# Altium integrated library Microchip Power Management CPU-System Supervisor.IntLib: 428 symbols (part 12 of 12)
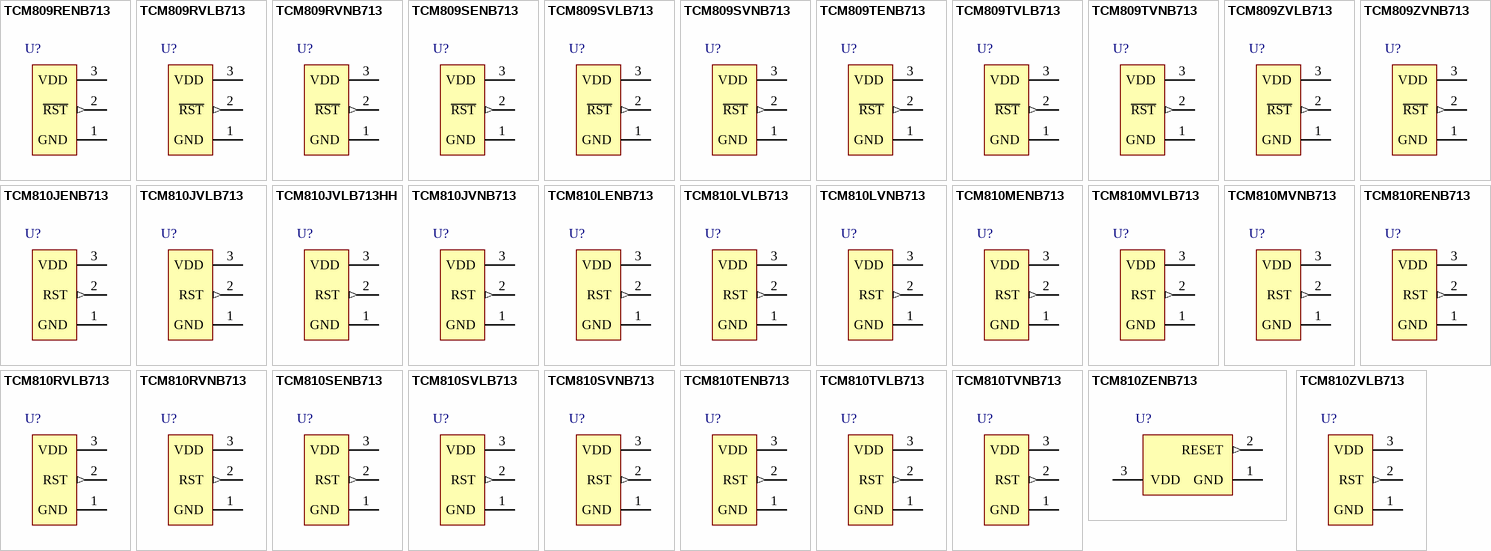
[diagram p21: symbols TCM809RENB713 to TCM810ZVLB713]

## TCM810MVLB713
designator U?
3-Pin Microcontroller Reset Monitors, 3-Pin SC-70; Manufacturer: Microchip; PartNumber: TCM810MVLB713; DatasheetVersion: revD, Mar-2005; PackageVersion: revBB, Aug-2009; PackageReference: SC70-LB3; PackageDescription: 3-Lead Plastic Small Outline Transistor (LB) [SC70]; Supplier 1: Digi-Key; Supplier Part Number 1: TCM810MVLB713TR-ND; Supplier 2: Digi-Key; Supplier Part Number 2: TCM810MVLB713CT-ND; Supplier 3: Digi-Key; Supplier Part Number 3: TCM810MVLB713DKR-ND; Supplier 4: Farnell; Supplier Part Number 4: 1840924; Supplier 5: Newark; Supplier Part Number 5: 31T1363; Supplier 6: Newark; Supplier Part Number 6: 92C5473; Supplier 7: Mouser; Supplier Part Number 7: 579-TCM810MVLB713; Mounting Technology: Surface Mount; ComponentLink1Description: Manufacturer URL; ComponentLink1URL: http://www.microchip.com/; ComponentLink2Description: Datasheet; ComponentLink2URL: http://ww1.microchip.com/downloads/en/DeviceDoc/21661d.pdf; ComponentLink3Description: Package Specification; ComponentLink3URL: http://www.microchip.com/stellent/groups/techpub_sg/documents/packagingspec/en012702.pdf
footprint SC70-LB3_N (SOT323, 3-Leads, Body 2.0x1.3mm, Pitch 0.65mm, Lead Span 2.1mm, IPC Medium Density)
footprint SC70-LB3_L (SOT323, 3-Leads, Body 2.0x1.3mm, Pitch 0.65mm, Lead Span 2.1mm, IPC High Density)
footprint SC70-LB3_M (SOT323, 3-Leads, Body 2.0x1.3mm, Pitch 0.65mm, Lead Span 2.1mm, IPC Low Density)
pins: 1 GND (power), 2 RST (out), 3 VDD (power)

## TCM810MVNB713
designator U?
3-Pin Microcontroller Reset Monitors, 3-Pin SOT-23; Manufacturer: Microchip; PartNumber: TCM810MVNB713; DatasheetVersion: revD, Mar-2005; PackageVersion: revBB, Aug-2009; PackageReference: SOT-23-NB3; PackageDescription: 3-Lead Plastic Small Outline Transistor (NB) [SOT-23]; Supplier 1: Digi-Key; Supplier Part Number 1: TCM810MVNB713TR-ND; Supplier 2: Digi-Key; Supplier Part Number 2: TCM810MVNB713CT-ND; Supplier 3: Digi-Key; Supplier Part Number 3: TCM810MVNB713DKR-ND; Supplier 4: Farnell; Supplier Part Number 4: 1840926; Supplier 5: Farnell; Supplier Part Number 5: 1840926RL; Supplier 6: Newark; Supplier Part Number 6: 31T1364; Supplier 7: Newark; Supplier Part Number 7: 92C5474; Supplier 8: Mouser; Supplier Part Number 8: 579-TCM810MVNB713; Mounting Technology: Surface Mount; Code_IPC: SOT23-3; ComponentLink1Description: Manufacturer URL; ComponentLink1URL: http://www.microchip.com/; ComponentLink2Description: Datasheet; ComponentLink2URL: http://ww1.microchip.com/downloads/en/DeviceDoc/21661d.pdf; ComponentLink3Description: Package Specification; ComponentLink3URL: http://www.microchip.com/stellent/groups/techpub_sg/documents/packagingspec/en012702.pdf
footprint SOT-23-NB3_N (SOT23, 3-Leads, Body 2.9x1.3mm, Pitch 0.95mm, Lead Span 2.4mm, IPC Medium Density)
footprint SOT-23-NB3_L (SOT23, 3-Leads, Body 2.9x1.3mm, Pitch 0.95mm, Lead Span 2.4mm, IPC High Density)
footprint SOT-23-NB3_M (SOT23, 3-Leads, Body 2.9x1.3mm, Pitch 0.95mm, Lead Span 2.4mm, IPC Low Density)
pins: 1 GND (power), 2 RST (out), 3 VDD (power)

## TCM810RENB713
designator U?
3-Pin Microcontroller Reset Monitors, 3-Pin SOT-23, Extended Temperature; Manufacturer: Microchip; PartNumber: TCM810RENB713; DatasheetVersion: revD, Mar-2005; PackageVersion: revBB, Aug-2009; PackageReference: SOT-23-NB3; PackageDescription: 3-Lead Plastic Small Outline Transistor (NB) [SOT-23]; Supplier 1: Digi-Key; Supplier Part Number 1: TCM810RENB713TR-ND; Supplier 2: Digi-Key; Supplier Part Number 2: TCM810RENB713CT-ND; Supplier 3: Digi-Key; Supplier Part Number 3: TCM810RENB713DKR-ND; Supplier 4: Mouser; Supplier Part Number 4: 579-TCM810RENB713; Mounting Technology: Surface Mount; Code_IPC: SOT23-3; ComponentLink1Description: Manufacturer URL; ComponentLink1URL: http://www.microchip.com/; ComponentLink2Description: Datasheet; ComponentLink2URL: http://ww1.microchip.com/downloads/en/DeviceDoc/21661d.pdf; ComponentLink3Description: Package Specification; ComponentLink3URL: http://www.microchip.com/stellent/groups/techpub_sg/documents/packagingspec/en012702.pdf
footprint SOT-23-NB3_N (SOT23, 3-Leads, Body 2.9x1.3mm, Pitch 0.95mm, Lead Span 2.4mm, IPC Medium Density)
footprint SOT-23-NB3_L (SOT23, 3-Leads, Body 2.9x1.3mm, Pitch 0.95mm, Lead Span 2.4mm, IPC High Density)
footprint SOT-23-NB3_M (SOT23, 3-Leads, Body 2.9x1.3mm, Pitch 0.95mm, Lead Span 2.4mm, IPC Low Density)
pins: 1 GND (power), 2 RST (out), 3 VDD (power)

## TCM810RVLB713
designator U?
3-Pin Microcontroller Reset Monitors, 3-Pin SC-70; Manufacturer: Microchip; PartNumber: TCM810RVLB713; DatasheetVersion: revD, Mar-2005; PackageVersion: revBB, Aug-2009; PackageReference: SC70-LB3; PackageDescription: 3-Lead Plastic Small Outline Transistor (LB) [SC70]; Supplier 1: Digi-Key; Supplier Part Number 1: TCM810RVLB713TR-ND; Supplier 2: Digi-Key; Supplier Part Number 2: TCM810RVLB713CT-ND; Supplier 3: Digi-Key; Supplier Part Number 3: TCM810RVLB713DKR-ND; Supplier 4: Farnell; Supplier Part Number 4: 1840909; Supplier 5: Newark; Supplier Part Number 5: 31T1365; Supplier 6: Newark; Supplier Part Number 6: 72C4333; Supplier 7: Mouser; Supplier Part Number 7: 579-TCM810RVLB713; Mounting Technology: Surface Mount; ComponentLink1Description: Manufacturer URL; ComponentLink1URL: http://www.microchip.com/; ComponentLink2Description: Datasheet; ComponentLink2URL: http://ww1.microchip.com/downloads/en/DeviceDoc/21661d.pdf; ComponentLink3Description: Package Specification; ComponentLink3URL: http://www.microchip.com/stellent/groups/techpub_sg/documents/packagingspec/en012702.pdf
footprint SC70-LB3_N (SOT323, 3-Leads, Body 2.0x1.3mm, Pitch 0.65mm, Lead Span 2.1mm, IPC Medium Density)
footprint SC70-LB3_L (SOT323, 3-Leads, Body 2.0x1.3mm, Pitch 0.65mm, Lead Span 2.1mm, IPC High Density)
footprint SC70-LB3_M (SOT323, 3-Leads, Body 2.0x1.3mm, Pitch 0.65mm, Lead Span 2.1mm, IPC Low Density)
pins: 1 GND (power), 2 RST (out), 3 VDD (power)

## TCM810RVNB713
designator U?
3-Pin Microcontroller Reset Monitors, 3-Pin SOT-23; Manufacturer: Microchip; PartNumber: TCM810RVNB713; DatasheetVersion: revD, Mar-2005; PackageVersion: revBB, Aug-2009; PackageReference: SOT-23-NB3; PackageDescription: 3-Lead Plastic Small Outline Transistor (NB) [SOT-23]; Supplier 1: Digi-Key; Supplier Part Number 1: TCM810RVNB713TR-ND; Supplier 2: Digi-Key; Supplier Part Number 2: TCM810RVNB713CT-ND; Supplier 3: Digi-Key; Supplier Part Number 3: TCM810RVNB713DKR-ND; Supplier 4: Farnell; Supplier Part Number 4: 1840910RL; Supplier 5: Farnell; Supplier Part Number 5: 1840910; Supplier 6: Newark; Supplier Part Number 6: 31T1366; Supplier 7: Newark; Supplier Part Number 7: 92C5475; Supplier 8: Mouser; Supplier Part Number 8: 579-TCM810RVNB713; Mounting Technology: Surface Mount; Code_IPC: SOT23-3; ComponentLink1Description: Manufacturer URL; ComponentLink1URL: http://www.microchip.com/; ComponentLink2Description: Datasheet; ComponentLink2URL: http://ww1.microchip.com/downloads/en/DeviceDoc/21661d.pdf; ComponentLink3Description: Package Specification; ComponentLink3URL: http://www.microchip.com/stellent/groups/techpub_sg/documents/packagingspec/en012702.pdf
footprint SOT-23-NB3_N (SOT23, 3-Leads, Body 2.9x1.3mm, Pitch 0.95mm, Lead Span 2.4mm, IPC Medium Density)
footprint SOT-23-NB3_L (SOT23, 3-Leads, Body 2.9x1.3mm, Pitch 0.95mm, Lead Span 2.4mm, IPC High Density)
footprint SOT-23-NB3_M (SOT23, 3-Leads, Body 2.9x1.3mm, Pitch 0.95mm, Lead Span 2.4mm, IPC Low Density)
pins: 1 GND (power), 2 RST (out), 3 VDD (power)

## TCM810SENB713
designator U?
3-Pin Microcontroller Reset Monitors, 3-Pin SOT-23, Extended Temperature; Manufacturer: Microchip; PartNumber: TCM810SENB713; DatasheetVersion: revD, Mar-2005; PackageVersion: revBB, Aug-2009; PackageReference: SOT-23-NB3; PackageDescription: 3-Lead Plastic Small Outline Transistor (NB) [SOT-23]; Supplier 1: Digi-Key; Supplier Part Number 1: TCM810SENB713TR-ND; Supplier 2: Digi-Key; Supplier Part Number 2: TCM810SENB713CT-ND; Supplier 3: Newark; Supplier Part Number 3: 96K4002; Supplier 4: Mouser; Supplier Part Number 4: 579-TCM810SENB713; Mounting Technology: Surface Mount; Code_IPC: SOT23-3; ComponentLink1Description: Manufacturer URL; ComponentLink1URL: http://www.microchip.com/; ComponentLink2Description: Datasheet; ComponentLink2URL: http://ww1.microchip.com/downloads/en/DeviceDoc/21661d.pdf; ComponentLink3Description: Package Specification; ComponentLink3URL: http://www.microchip.com/stellent/groups/techpub_sg/documents/packagingspec/en012702.pdf
footprint SOT-23-NB3_N (SOT23, 3-Leads, Body 2.9x1.3mm, Pitch 0.95mm, Lead Span 2.4mm, IPC Medium Density)
footprint SOT-23-NB3_L (SOT23, 3-Leads, Body 2.9x1.3mm, Pitch 0.95mm, Lead Span 2.4mm, IPC High Density)
footprint SOT-23-NB3_M (SOT23, 3-Leads, Body 2.9x1.3mm, Pitch 0.95mm, Lead Span 2.4mm, IPC Low Density)
pins: 1 GND (power), 2 RST (out), 3 VDD (power)

## TCM810SVLB713
designator U?
3-Pin Microcontroller Reset Monitors, 3-Pin SC-70; Manufacturer: Microchip; PartNumber: TCM810SVLB713; DatasheetVersion: revD, Mar-2005; PackageVersion: revBB, Aug-2009; PackageReference: SC70-LB3; PackageDescription: 3-Lead Plastic Small Outline Transistor (LB) [SC70]; Supplier 1: Digi-Key; Supplier Part Number 1: TCM810SVLB713TR-ND; Supplier 2: Digi-Key; Supplier Part Number 2: TCM810SVLB713CT-ND; Supplier 3: Digi-Key; Supplier Part Number 3: TCM810SVLB713DKR-ND; Supplier 4: Farnell; Supplier Part Number 4: 1840913; Supplier 5: Newark; Supplier Part Number 5: 31T1367; Supplier 6: Newark; Supplier Part Number 6: 72C4334; Supplier 7: Mouser; Supplier Part Number 7: 579-TCM810SVLB713; Mounting Technology: Surface Mount; ComponentLink1Description: Manufacturer URL; ComponentLink1URL: http://www.microchip.com/; ComponentLink2Description: Datasheet; ComponentLink2URL: http://ww1.microchip.com/downloads/en/DeviceDoc/21661d.pdf; ComponentLink3Description: Package Specification; ComponentLink3URL: http://www.microchip.com/stellent/groups/techpub_sg/documents/packagingspec/en012702.pdf
footprint SC70-LB3_N (SOT323, 3-Leads, Body 2.0x1.3mm, Pitch 0.65mm, Lead Span 2.1mm, IPC Medium Density)
footprint SC70-LB3_L (SOT323, 3-Leads, Body 2.0x1.3mm, Pitch 0.65mm, Lead Span 2.1mm, IPC High Density)
footprint SC70-LB3_M (SOT323, 3-Leads, Body 2.0x1.3mm, Pitch 0.65mm, Lead Span 2.1mm, IPC Low Density)
pins: 1 GND (power), 2 RST (out), 3 VDD (power)

## TCM810SVNB713
designator U?
3-Pin Microcontroller Reset Monitors, 3-Pin SOT-23; Manufacturer: Microchip; PartNumber: TCM810SVNB713; DatasheetVersion: revD, Mar-2005; PackageVersion: revBB, Aug-2009; PackageReference: SOT-23-NB3; PackageDescription: 3-Lead Plastic Small Outline Transistor (NB) [SOT-23]; Supplier 1: Digi-Key; Supplier Part Number 1: TCM810SVNB713TR-ND; Supplier 2: Digi-Key; Supplier Part Number 2: TCM810SVNB713CT-ND; Supplier 3: Digi-Key; Supplier Part Number 3: TCM810SVNB713DKR-ND; Supplier 4: Farnell; Supplier Part Number 4: 1840916RL; Supplier 5: Farnell; Supplier Part Number 5: 1840916; Supplier 6: Newark; Supplier Part Number 6: 31T1368; Supplier 7: Newark; Supplier Part Number 7: 92C5476; Supplier 8: Mouser; Supplier Part Number 8: 579-TCM810SVNB713; Mounting Technology: Surface Mount; Code_IPC: SOT23-3; ComponentLink1Description: Manufacturer URL; ComponentLink1URL: http://www.microchip.com/; ComponentLink2Description: Datasheet; ComponentLink2URL: http://ww1.microchip.com/downloads/en/DeviceDoc/21661d.pdf; ComponentLink3Description: Package Specification; ComponentLink3URL: http://www.microchip.com/stellent/groups/techpub_sg/documents/packagingspec/en012702.pdf
footprint SOT-23-NB3_N (SOT23, 3-Leads, Body 2.9x1.3mm, Pitch 0.95mm, Lead Span 2.4mm, IPC Medium Density)
footprint SOT-23-NB3_L (SOT23, 3-Leads, Body 2.9x1.3mm, Pitch 0.95mm, Lead Span 2.4mm, IPC High Density)
footprint SOT-23-NB3_M (SOT23, 3-Leads, Body 2.9x1.3mm, Pitch 0.95mm, Lead Span 2.4mm, IPC Low Density)
pins: 1 GND (power), 2 RST (out), 3 VDD (power)

## TCM810TENB713
designator U?
3-Pin Microcontroller Reset Monitors, 3-Pin SOT-23, Extended Temperature; Manufacturer: Microchip; PartNumber: TCM810TENB713; DatasheetVersion: revD, Mar-2005; PackageVersion: revBB, Aug-2009; PackageReference: SOT-23-NB3; PackageDescription: 3-Lead Plastic Small Outline Transistor (NB) [SOT-23]; Supplier 1: Digi-Key; Supplier Part Number 1: TCM810TENB713TR-ND; Supplier 2: Digi-Key; Supplier Part Number 2: TCM810TENB713CT-ND; Supplier 3: Mouser; Supplier Part Number 3: 579-TCM810TENB713; Mounting Technology: Surface Mount; Code_IPC: SOT23-3; ComponentLink1Description: Manufacturer URL; ComponentLink1URL: http://www.microchip.com/; ComponentLink2Description: Datasheet; ComponentLink2URL: http://ww1.microchip.com/downloads/en/DeviceDoc/21661d.pdf; ComponentLink3Description: Package Specification; ComponentLink3URL: http://www.microchip.com/stellent/groups/techpub_sg/documents/packagingspec/en012702.pdf
footprint SOT-23-NB3_N (SOT23, 3-Leads, Body 2.9x1.3mm, Pitch 0.95mm, Lead Span 2.4mm, IPC Medium Density)
footprint SOT-23-NB3_L (SOT23, 3-Leads, Body 2.9x1.3mm, Pitch 0.95mm, Lead Span 2.4mm, IPC High Density)
footprint SOT-23-NB3_M (SOT23, 3-Leads, Body 2.9x1.3mm, Pitch 0.95mm, Lead Span 2.4mm, IPC Low Density)
pins: 1 GND (power), 2 RST (out), 3 VDD (power)

## TCM810TVLB713
designator U?
3-Pin Microcontroller Reset Monitors, 3-Pin SC-70; Manufacturer: Microchip; PartNumber: TCM810TVLB713; DatasheetVersion: revD, Mar-2005; PackageVersion: revBB, Aug-2009; PackageReference: SC70-LB3; PackageDescription: 3-Lead Plastic Small Outline Transistor (LB) [SC70]; Supplier 1: Digi-Key; Supplier Part Number 1: TCM810TVLB713TR-ND; Supplier 2: Digi-Key; Supplier Part Number 2: TCM810TVLB713CT-ND; Supplier 3: Digi-Key; Supplier Part Number 3: TCM810TVLB713DKR-ND; Supplier 4: Farnell; Supplier Part Number 4: 1840918; Supplier 5: Newark; Supplier Part Number 5: 31T1369; Supplier 6: Newark; Supplier Part Number 6: 92C5478; Supplier 7: Mouser; Supplier Part Number 7: 579-TCM810TVLB713; Mounting Technology: Surface Mount; ComponentLink1Description: Manufacturer URL; ComponentLink1URL: http://www.microchip.com/; ComponentLink2Description: Datasheet; ComponentLink2URL: http://ww1.microchip.com/downloads/en/DeviceDoc/21661d.pdf; ComponentLink3Description: Package Specification; ComponentLink3URL: http://www.microchip.com/stellent/groups/techpub_sg/documents/packagingspec/en012702.pdf
footprint SC70-LB3_N (SOT323, 3-Leads, Body 2.0x1.3mm, Pitch 0.65mm, Lead Span 2.1mm, IPC Medium Density)
footprint SC70-LB3_L (SOT323, 3-Leads, Body 2.0x1.3mm, Pitch 0.65mm, Lead Span 2.1mm, IPC High Density)
footprint SC70-LB3_M (SOT323, 3-Leads, Body 2.0x1.3mm, Pitch 0.65mm, Lead Span 2.1mm, IPC Low Density)
pins: 1 GND (power), 2 RST (out), 3 VDD (power)

## TCM810TVNB713
designator U?
3-Pin Microcontroller Reset Monitors, 3-Pin SOT-23; Manufacturer: Microchip; PartNumber: TCM810TVNB713; DatasheetVersion: revD, Mar-2005; PackageVersion: revBB, Aug-2009; PackageReference: SOT-23-NB3; PackageDescription: 3-Lead Plastic Small Outline Transistor (NB) [SOT-23]; Supplier 1: Digi-Key; Supplier Part Number 1: TCM810TVNB713TR-ND; Supplier 2: Digi-Key; Supplier Part Number 2: TCM810TVNB713CT-ND; Supplier 3: Digi-Key; Supplier Part Number 3: TCM810TVNB713DKR-ND; Supplier 4: Farnell; Supplier Part Number 4: 1840920RL; Supplier 5: Farnell; Supplier Part Number 5: 1840920; Supplier 6: Newark; Supplier Part Number 6: 92C5479; Supplier 7: Newark; Supplier Part Number 7: 31T1370; Supplier 8: Mouser; Supplier Part Number 8: 579-TCM810TVNB713; Mounting Technology: Surface Mount; Code_IPC: SOT23-3; ComponentLink1Description: Manufacturer URL; ComponentLink1URL: http://www.microchip.com/; ComponentLink2Description: Datasheet; ComponentLink2URL: http://ww1.microchip.com/downloads/en/DeviceDoc/21661d.pdf; ComponentLink3Description: Package Specification; ComponentLink3URL: http://www.microchip.com/stellent/groups/techpub_sg/documents/packagingspec/en012702.pdf
footprint SOT-23-NB3_N (SOT23, 3-Leads, Body 2.9x1.3mm, Pitch 0.95mm, Lead Span 2.4mm, IPC Medium Density)
footprint SOT-23-NB3_L (SOT23, 3-Leads, Body 2.9x1.3mm, Pitch 0.95mm, Lead Span 2.4mm, IPC High Density)
footprint SOT-23-NB3_M (SOT23, 3-Leads, Body 2.9x1.3mm, Pitch 0.95mm, Lead Span 2.4mm, IPC Low Density)
pins: 1 GND (power), 2 RST (out), 3 VDD (power)

## TCM810ZENB713
designator U?
Microcontroller Reset Monitors, 12 uA Supply Current, Push-Pull Output, 1 to 5.5 V, -40 to 85 degC, 3-pin SOT-23 (NB3), Tape and Reel; Manufacturer: Microchip; PartNumber: TCM810ZENB713; DatasheetVersion: Rev. D; PackageVersion: C04-104B; PackageReference: SOT-23-NB3; PackageDescription: 3-Lead Plastic Small Outline Transistor, 2.9 x 1.3 mm Body, 0.95 mm Pitch; Supplier 1: Digi-Key; Supplier Part Number 1: TCM810ZENB713-ND; Supplier 2: Mouser; Supplier Part Number 2: 579-TCM810ZENB713; Mounting Technology: Surface Mount; ComponentLink1Description: Manufacturer URL; ComponentLink1URL: http://www.microchip.com; ComponentLink2Description: Datasheet; ComponentLink2URL: http://ww1.microchip.com/downloads/en/DeviceDoc/21661d.pdf; ComponentLink3Description: Package Specification; ComponentLink3URL: http://www.microchip.com/stellent/groups/techpub_sg/documents/packagingspec/en012702.pdf; ComponentLink4Description: Product URL; ComponentLink4URL: http://www.microchip.com/TCM810
footprint MCHP-SOT-23-NB3_N (SOT23, 3-Leads, Body 2.86x1.28mm, Pitch 0.95mm, IPC Medium Density)
footprint MCHP-SOT-23-NB3_L (SOT23, 3-Leads, Body 2.86x1.28mm, Pitch 0.95mm, IPC High Density)
footprint MCHP-SOT-23-NB3_M (SOT23, 3-Leads, Body 2.86x1.28mm, Pitch 0.95mm, IPC Low Density)
pins: 1 GND (power) "Ground", 2 RESET (out) "Reset push-pull output", 3 VDD (power) "Supply voltage (+2.5V, +3.0V, +3.3V, +5.0V)"

## TCM810ZVLB713
designator U?
3-Pin Microcontroller Reset Monitors, 3-Pin SC-70; Manufacturer: Microchip; PartNumber: TCM810ZVLB713; DatasheetVersion: revD, Mar-2005; PackageVersion: revBB, Aug-2009; PackageReference: SC70-LB3; PackageDescription: 3-Lead Plastic Small Outline Transistor (LB) [SC70]; Supplier 1: Digi-Key; Supplier Part Number 1: TCM810ZVLB713TR-ND; Supplier 2: Digi-Key; Supplier Part Number 2: TCM810ZVLB713CT-ND; Supplier 3: Digi-Key; Supplier Part Number 3: TCM810ZVLB713DKR-ND; Supplier 4: Farnell; Supplier Part Number 4: 1840906; Supplier 5: Newark; Supplier Part Number 5: 31T1371; Supplier 6: Newark; Supplier Part Number 6: 72C4335; Supplier 7: Mouser; Supplier Part Number 7: 579-TCM810ZVLB713; Mounting Technology: Surface Mount; ComponentLink1Description: Manufacturer URL; ComponentLink1URL: http://www.microchip.com/; ComponentLink2Description: Datasheet; ComponentLink2URL: http://ww1.microchip.com/downloads/en/DeviceDoc/21661d.pdf; ComponentLink3Description: Package Specification; ComponentLink3URL: http://www.microchip.com/stellent/groups/techpub_sg/documents/packagingspec/en012702.pdf
footprint SC70-LB3_N (SOT323, 3-Leads, Body 2.0x1.3mm, Pitch 0.65mm, Lead Span 2.1mm, IPC Medium Density)
footprint SC70-LB3_L (SOT323, 3-Leads, Body 2.0x1.3mm, Pitch 0.65mm, Lead Span 2.1mm, IPC High Density)
footprint SC70-LB3_M (SOT323, 3-Leads, Body 2.0x1.3mm, Pitch 0.65mm, Lead Span 2.1mm, IPC Low Density)
pins: 1 GND (power), 2 RST (out), 3 VDD (power)